# EAGLE library part MAX5033BASA+T (library MAX5033BASA+T)
Switching Voltage Regulators 500mA, 76V, High-Efficiency, MAXPower Step-Down DC-DC Converter Source: Datasheet <https://datasheets.maximintegrated.com/en/ds/MAX5033.pdf>
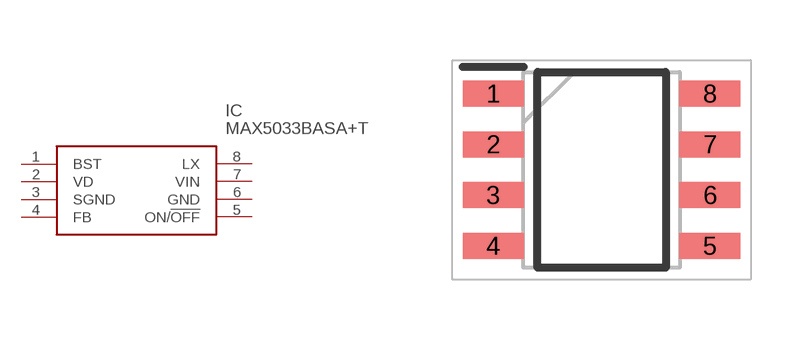
[diagram p0: symbol with the pads of SOIC127P600X175-8N; footprint SOIC127P600X175-8N]

Designator prefix IC

## MAX5033BASA+T (Description: Switching Voltage Regulators 500mA, 76V, High-Efficiency, MAXPower Step-Down DC-DC Converter; Height: 1.75mm; Manufacturer_Name: Maxim Integrated; Manufacturer_Part_Number: MAX5033BASA+T; Mouser_Part_Number: 700-MAX5033BASAT; Mouser_Price-Stock: https://www.mouser.co.uk/ProductDetail/Maxim-Integrated/MAX5033BASA%2bT?qs=Mqkh4jHMT8xXKpChzV448w%3D%3D)  [SOIC127P600X175-8N]
1  BST
2  VD
3  SGND
4  FB
5  ON/!OFF
6  GND
7  VIN
8  LX

## Footprint SOIC127P600X175-8N (pad centres in mm)
S8+5
smd 1.525 x 0.65: 1 -2.712,1.905; 2 -2.712,0.635; 3 -2.712,-0.635; 4 -2.712,-1.905; 5 2.712,-1.905; 6 2.712,-0.635; 7 2.712,0.635; 8 2.712,1.905